# EAGLE library part EDAC-690-004-660-023 (library keves)
USB TYPE B FEMALE CONNECTOR
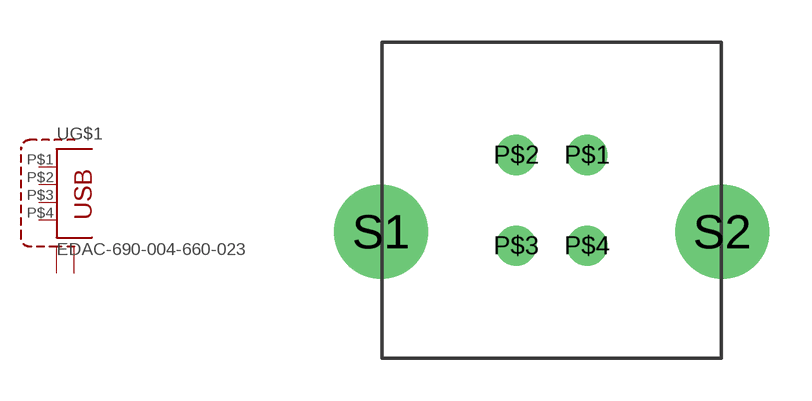
[diagram p23: symbol with the pads of EDAC-690-004-660-023; footprint EDAC-690-004-660-023]

Designator prefix -; gates G$1=USB_DEVICE_B G$2=SHIELD2

## EDAC-690-004-660-023  [EDAC-690-004-660-023]
P$1  G$1:1
P$2  G$1:2
P$3  G$1:3
P$4  G$1:4
S1  G$2:S1  pas
S2  G$2:S2  pas

## Footprint EDAC-690-004-660-023 (pad centres in mm)
CONN USB JACK TYPE B VERT STR
drill 0.92: P$1 1.25,1.6; P$2 -1.25,1.6; P$3 -1.25,-1.6; P$4 1.25,-1.6
drill 2.3: S1 -6.02,-1.11; S2 6.02,-1.11